# Altium footprint library alexsb.PCBLIB: 444 footprints (part 13 of 28)
Each footprint in its own frame and in the unit in brackets; x right, y up, seen from the top. Pads: shape width x height; smd on the part's side, far side on the other; paste and mask are expansions set on the pad; w line width, h text height; cw(c..) or ccw(c..) is an arc to the next point about the centre after c.
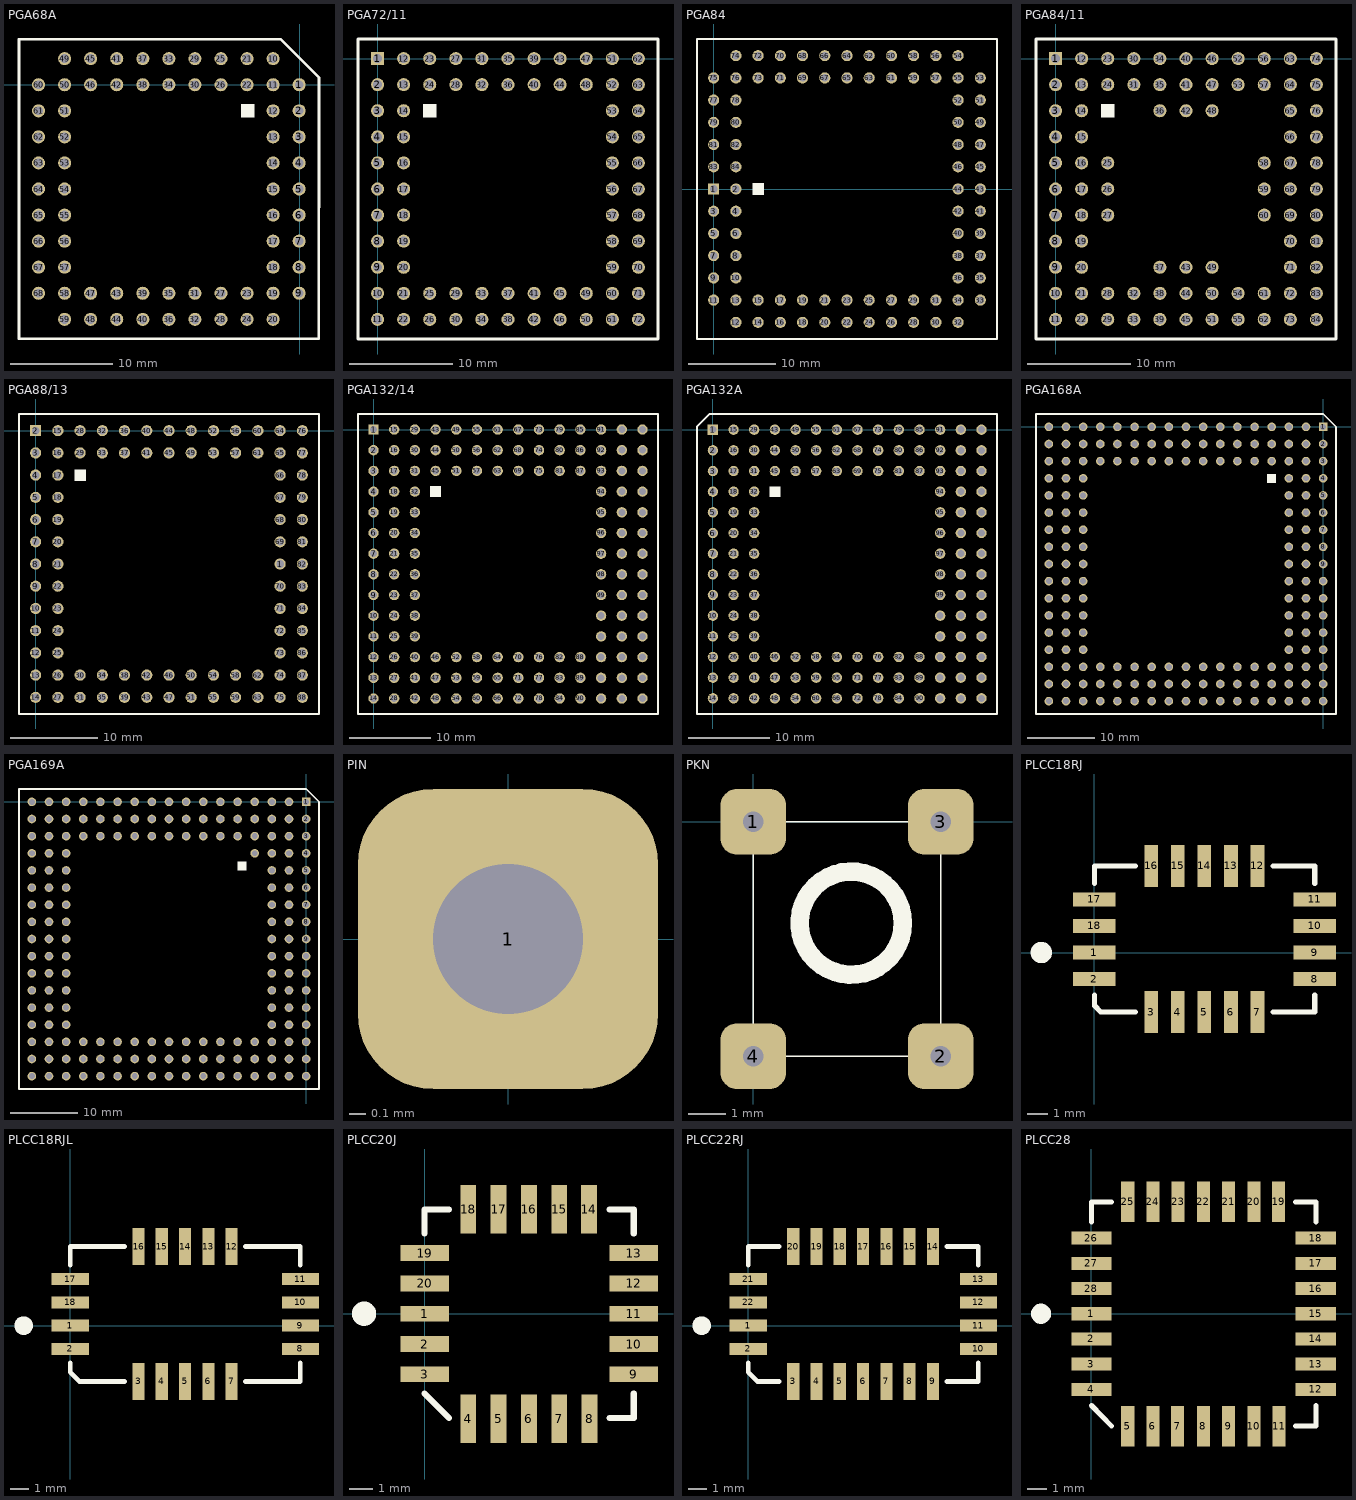
[diagram p12: the footprints below, top view; thin cyan lines are the x and y axes]

## PGA68A [mil]
pads (68):
  round 50 hole 34: 1(-3,0) 2(-3,-100) 3(-3,-200) 4(-3,-300) 5(-3,-400) 6(-3,-500) 7(-3,-600) 8(-3,-700) 9(-3,-800) 10(-103,100) 11(-103,0) 12(-103,-100) 13(-103,-200) 14(-103,-300) 15(-103,-400) 16(-103,-500) 17(-103,-600) 18(-103,-700) 19(-103,-800) 20(-103,-900) 21(-203,100) 22(-203,0) 23(-203,-800) 24(-203,-900) 25(-303,100) 26(-303,0) 27(-303,-800) 28(-303,-900) 29(-403,100) 30(-403,0) 31(-403,-800) 32(-403,-900) 33(-503,100) 34(-503,0) 35(-503,-800) 36(-503,-900) 37(-603,100) 38(-603,0) 39(-603,-800) 40(-603,-900) 41(-703,100) 42(-703,0) 43(-703,-800) 44(-703,-900) 45(-803,100) 46(-803,0) 47(-803,-800) 48(-803,-900) 49(-903,100) 50(-903,0) 51(-903,-100) 52(-903,-200) 53(-903,-300) 54(-903,-400) 55(-903,-500) 56(-903,-600) 57(-903,-700) 58(-903,-800) 59(-903,-900) 60(-1003,0) 61(-1003,-100) 62(-1003,-200) 63(-1003,-300) 64(-1003,-400) 65(-1003,-500) 66(-1003,-600) 67(-1003,-700) 68(-1003,-800)
Top Overlay:
  region: -175,-75 -225,-75 -225,-125 -175,-125
  lines w10: -1078,-975 -1078,175 -75,175 73,27 72,-975 -1078,-975

## PGA72/11 [mil]
pads (72):
  rect 50x50 hole 34: 1(0,0)
  round 50 hole 34: 2(0,-100) 3(0,-200) 4(0,-300) 5(0,-400) 6(0,-500) 7(0,-600) 8(0,-700) 9(0,-800) 10(0,-900) 11(0,-1000) 12(100,0) 13(100,-100) 14(100,-200) 15(100,-300) 16(100,-400) 17(100,-500) 18(100,-600) 19(100,-700) 20(100,-800) 21(100,-900) 22(100,-1000) 23(200,0) 24(200,-100) 25(200,-900) 26(200,-1000) 27(300,0) 28(300,-100) 29(300,-900) 30(300,-1000) 31(400,0) 32(400,-100) 33(400,-900) 34(400,-1000) 35(500,0) 36(500,-100) 37(500,-900) 38(500,-1000) 39(600,0) 40(600,-100) 41(600,-900) 42(600,-1000) 43(700,0) 44(700,-100) 45(700,-900) 46(700,-1000) 47(800,0) 48(800,-100) 49(800,-900) 50(800,-1000) 51(900,0) 52(900,-100) 53(900,-200) 54(900,-300) 55(900,-400) 56(900,-500) 57(900,-600) 58(900,-700) 59(900,-800) 60(900,-900) 61(900,-1000) 62(1000,0) 63(1000,-100) 64(1000,-200) 65(1000,-300) 66(1000,-400) 67(1000,-500) 68(1000,-600) 69(1000,-700) 70(1000,-800) 71(1000,-900) 72(1000,-1000)
Top Overlay:
  region: 175,-225 225,-225 225,-175 175,-175
  lines w10: -75,-1075 1075,-1075 1075,75 -75,75 -75,-1075

## PGA84 [mil]
pads (84):
  rect 50x50 hole 34: 1(0,0)
  round 50 hole 34: 2(100,0) 3(0,-100) 4(100,-100) 5(0,-200) 6(100,-200) 7(0,-300) 8(100,-300) 9(0,-400) 10(100,-400) 11(0,-500) 12(100,-600) 13(100,-500) 14(200,-600) 15(200,-500) 16(300,-600) 17(300,-500) 18(400,-600) 19(400,-500) 20(500,-600) 21(500,-500) 22(600,-600) 23(600,-500) 24(700,-600) 25(700,-500) 26(800,-600) 27(800,-500) 28(900,-600) 29(900,-500) 30(1000,-600) 31(1000,-500) 32(1100,-600) 33(1200,-500) 34(1100,-500) 35(1200,-400) 36(1100,-400) 37(1200,-300) 38(1100,-300) 39(1200,-200) 40(1100,-200) 41(1200,-100) 42(1100,-100) 43(1200,0) 44(1100,0) 45(1200,100) 46(1100,100) 47(1200,200) 48(1100,200) 49(1200,300) 50(1100,300) 51(1200,400) 52(1100,400) 53(1200,500) 54(1100,600) 55(1100,500) 56(1000,600) 57(1000,500) 58(900,600) 59(900,500) 60(800,600) 61(800,500) 62(700,600) 63(700,500) 64(600,600) 65(600,500) 66(500,600) 67(500,500) 68(400,600) 69(400,500) 70(300,600) 71(300,500) 72(200,600) 73(200,500) 74(100,600) 75(0,500) 76(100,500) 77(0,400) 78(100,400) 79(0,300) 80(100,300) 81(0,200) 82(100,200) 83(0,100) 84(100,100)
Top Overlay:
  region: 175,-25 225,-25 225,25 175,25
  lines w10: -75,-675 1275,-675 1275,675 -75,675 -75,-675

## PGA84/11 [mil]
pads (84):
  rect 50x50 hole 34: 1(0,0)
  round 50 hole 34: 2(0,-100) 3(0,-200) 4(0,-300) 5(0,-400) 6(0,-500) 7(0,-600) 8(0,-700) 9(0,-800) 10(0,-900) 11(0,-1000) 12(100,0) 13(100,-100) 14(100,-200) 15(100,-300) 16(100,-400) 17(100,-500) 18(100,-600) 19(100,-700) 20(100,-800) 21(100,-900) 22(100,-1000) 23(200,0) 24(200,-100) 25(200,-400) 26(200,-500) 27(200,-600) 28(200,-900) 29(200,-1000) 30(300,0) 31(300,-100) 32(300,-900) 33(300,-1000) 34(400,0) 35(400,-100) 36(400,-200) 37(400,-800) 38(400,-900) 39(400,-1000) 40(500,0) 41(500,-100) 42(500,-200) 43(500,-800) 44(500,-900) 45(500,-1000) 46(600,0) 47(600,-100) 48(600,-200) 49(600,-800) 50(600,-900) 51(600,-1000) 52(700,0) 53(700,-100) 54(700,-900) 55(700,-1000) 56(800,0) 57(800,-100) 58(800,-400) 59(800,-500) 60(800,-600) 61(800,-900) 62(800,-1000) 63(900,0) 64(900,-100) 65(900,-200) 66(900,-300) 67(900,-400) 68(900,-500) 69(900,-600) 70(900,-700) 71(900,-800) 72(900,-900) 73(900,-1000) 74(1000,0) 75(1000,-100) 76(1000,-200) 77(1000,-300) 78(1000,-400) 79(1000,-500) 80(1000,-600) 81(1000,-700) 82(1000,-800) 83(1000,-900) 84(1000,-1000)
Top Overlay:
  region: 175,-225 225,-225 225,-175 175,-175
  lines w10: -75,-1075 1075,-1075 1075,75 -75,75 -75,-1075

## PGA88/13 [mil]
pads (88):
  round 50 hole 34: 1(1100,-600) 3(0,-100) 4(0,-200) 5(0,-300) 6(0,-400) 7(0,-500) 8(0,-600) 9(0,-700) 10(0,-800) 11(0,-900) 12(0,-1000) 13(0,-1100) 14(0,-1200) 15(100,0) 16(100,-100) 17(100,-200) 18(100,-300) 19(100,-400) 20(100,-500) 21(100,-600) 22(100,-700) 23(100,-800) 24(100,-900) 25(100,-1000) 26(100,-1100) 27(100,-1200) 28(200,0) 29(200,-100) 30(200,-1100) 31(200,-1200) 32(300,0) 33(300,-100) 34(300,-1100) 35(300,-1200) 36(400,0) 37(400,-100) 38(400,-1100) 39(400,-1200) 40(500,0) 41(500,-100) 42(500,-1100) 43(500,-1200) 44(600,0) 45(600,-100) 46(600,-1100) 47(600,-1200) 48(700,0) 49(700,-100) 50(700,-1100) 51(700,-1200) 52(800,0) 53(800,-100) 54(800,-1100) 55(800,-1200) 56(900,0) 57(900,-100) 58(900,-1100) 59(900,-1200) 60(1000,0) 61(1000,-100) 62(1000,-1100) 63(1000,-1200) 64(1100,0) 65(1100,-100) 66(1100,-200) 67(1100,-300) 68(1100,-400) 69(1100,-500) 70(1100,-700) 71(1100,-800) 72(1100,-900) 73(1100,-1000) 74(1100,-1100) 75(1100,-1200) 76(1200,0) 77(1200,-100) 78(1200,-200) 79(1200,-300) 80(1200,-400) 81(1200,-500) 82(1200,-600) 83(1200,-700) 84(1200,-800) 85(1200,-900) 86(1200,-1000) 87(1200,-1100) 88(1200,-1200)
  rect 50x50 hole 34: 2(0,0)
Top Overlay:
  region: 175,-225 225,-225 225,-175 175,-175
  lines w10: -75,-1275 1275,-1275 1275,75 -75,75 -75,-1275

## PGA132/14 [mil]
pads (132):
  rect 50x50 hole 34: 1(0,0)
  round 50 hole 34: 2(0,-100) 3(0,-200) 4(0,-300) 5(0,-400) 6(0,-500) 7(0,-600) 8(0,-700) 9(0,-800) 10(0,-900) 11(0,-1000) 12(0,-1100) 13(0,-1200) 14(0,-1300) 15(100,0) 16(100,-100) 17(100,-200) 18(100,-300) 19(100,-400) 20(100,-500) 21(100,-600) 22(100,-700) 23(100,-800) 24(100,-900) 25(100,-1000) 26(100,-1100) 27(100,-1200) 28(100,-1300) 29(200,0) 30(200,-100) 31(200,-200) 32(200,-300) 33(200,-400) 34(200,-500) 35(200,-600) 36(200,-700) 37(200,-800) 38(200,-900) 39(200,-1000) 40(200,-1100) 41(200,-1200) 42(200,-1300) 43(300,0) 44(300,-100) 45(300,-200) 46(300,-1100) 47(300,-1200) 48(300,-1300) 49(400,0) 50(400,-100) 51(400,-200) 52(400,-1100) 53(400,-1200) 54(400,-1300) 55(500,0) 56(500,-100) 57(500,-200) 58(500,-1100) 59(500,-1200) 60(500,-1300) 61(600,0) 62(600,-100) 63(600,-200) 64(600,-1100) 65(600,-1200) 66(600,-1300) 67(700,0) 68(700,-100) 69(700,-200) 70(700,-1100) 71(700,-1200) 72(700,-1300) 73(800,0) 74(800,-100) 75(800,-200) 76(800,-1100) 77(800,-1200) 78(800,-1300) 79(900,0) 80(900,-100) 81(900,-200) 82(900,-1100) 83(900,-1200) 84(900,-1300) 85(1000,0) 86(1000,-100) 87(1000,-200) 88(1000,-1100) 89(1000,-1200) 90(1000,-1300) 91(1100,0) 92(1100,-100) 93(1100,-200) 94(1100,-300) 95(1100,-400) 96(1100,-500) 97(1100,-600) 98(1100,-700) 99(1100,-800) 100(1100,-900) 101(1100,-1000) 102(1100,-1100) 103(1100,-1200) 104(1100,-1300) 105(1200,0) 106(1200,-100) 107(1200,-200) 108(1200,-300) 109(1200,-400) 110(1200,-500) 111(1200,-600) 112(1200,-700) 113(1200,-800) 114(1200,-900) 115(1200,-1000) 116(1200,-1100) 117(1200,-1200) 118(1200,-1300) 119(1300,0) 120(1300,-100) 121(1300,-200) 122(1300,-300) 123(1300,-400) 124(1300,-500) 125(1300,-600) 126(1300,-700) 127(1300,-800) 128(1300,-900) 129(1300,-1000) 130(1300,-1100) 131(1300,-1200) 132(1300,-1300)
Top Overlay:
  region: 275,-325 325,-325 325,-275 275,-275
  lines w10: -75,-1375 -75,75 1375,75 1375,-1375 -75,-1375

## PGA132A [mil]
pads (132):
  rect 50x50 hole 34: 1(0,1)
  round 50 hole 34: 2(0,-99) 3(0,-199) 4(0,-299) 5(0,-399) 6(0,-499) 7(0,-599) 8(0,-699) 9(0,-799) 10(0,-899) 11(0,-999) 12(0,-1099) 13(0,-1199) 14(0,-1299) 15(100,1) 16(100,-99) 17(100,-199) 18(100,-299) 19(100,-399) 20(100,-499) 21(100,-599) 22(100,-699) 23(100,-799) 24(100,-899) 25(100,-999) 26(100,-1099) 27(100,-1199) 28(100,-1299) 29(200,1) 30(200,-99) 31(200,-199) 32(200,-299) 33(200,-399) 34(200,-499) 35(200,-599) 36(200,-699) 37(200,-799) 38(200,-899) 39(200,-999) 40(200,-1099) 41(200,-1199) 42(200,-1299) 43(300,1) 44(300,-99) 45(300,-199) 46(300,-1099) 47(300,-1199) 48(300,-1299) 49(400,1) 50(400,-99) 51(400,-199) 52(400,-1099) 53(400,-1199) 54(400,-1299) 55(500,1) 56(500,-99) 57(500,-199) 58(500,-1099) 59(500,-1199) 60(500,-1299) 61(600,1) 62(600,-99) 63(600,-199) 64(600,-1099) 65(600,-1199) 66(600,-1299) 67(700,1) 68(700,-99) 69(700,-199) 70(700,-1099) 71(700,-1199) 72(700,-1299) 73(800,1) 74(800,-99) 75(800,-199) 76(800,-1099) 77(800,-1199) 78(800,-1299) 79(900,1) 80(900,-99) 81(900,-199) 82(900,-1099) 83(900,-1199) 84(900,-1299) 85(1000,1) 86(1000,-99) 87(1000,-199) 88(1000,-1099) 89(1000,-1199) 90(1000,-1299) 91(1100,1) 92(1100,-99) 93(1100,-199) 94(1100,-299) 95(1100,-399) 96(1100,-499) 97(1100,-599) 98(1100,-699) 99(1100,-799) 100(1100,-899) 101(1100,-999) 102(1100,-1099) 103(1100,-1199) 104(1100,-1299) 105(1200,1) 106(1200,-99) 107(1200,-199) 108(1200,-299) 109(1200,-399) 110(1200,-499) 111(1200,-599) 112(1200,-699) 113(1200,-799) 114(1200,-899) 115(1200,-999) 116(1200,-1099) 117(1200,-1199) 118(1200,-1299) 119(1300,1) 120(1300,-99) 121(1300,-199) 122(1300,-299) 123(1300,-399) 124(1300,-499) 125(1300,-599) 126(1300,-699) 127(1300,-799) 128(1300,-899) 129(1300,-999) 130(1300,-1099) 131(1300,-1199) 132(1300,-1299)
Top Overlay:
  region: 325,-324 325,-274 275,-274 275,-324
  lines w10: -77,-1374 -76,17 -17,76 1375,76 1375,-1374 -75,-1374

## PGA168A [mil]
pads (168):
  rect 50x50 hole 34: 1(0,0)
  round 50 hole 34: 2(0,-100) 3(0,-200) 4(0,-300) 5(0,-400) 6(0,-500) 7(0,-600) 8(0,-700) 9(0,-800) 10(0,-900) 11(0,-1000) 12(0,-1100) 13(0,-1200) 14(0,-1300) 15(0,-1400) 16(0,-1500) 17(0,-1600) 18(-100,0) 19(-100,-100) 20(-100,-200) 21(-100,-300) 22(-100,-400) 23(-100,-500) 24(-100,-600) 25(-100,-700) 26(-100,-800) 27(-100,-900) 28(-100,-1000) 29(-100,-1100) 30(-100,-1200) 31(-100,-1300) 32(-100,-1400) 33(-100,-1500) 34(-100,-1600) 35(-200,0) 36(-200,-100) 37(-200,-200) 38(-200,-300) 39(-200,-400) 40(-200,-500) 41(-200,-600) 42(-200,-700) 43(-200,-800) 44(-200,-900) 45(-200,-1000) 46(-200,-1100) 47(-200,-1200) 48(-200,-1300) 49(-200,-1400) 50(-200,-1500) 51(-200,-1600) 52(-300,0) 53(-300,-100) 54(-300,-200) 55(-300,-1400) 56(-300,-1500) 57(-300,-1600) 58(-400,0) 59(-400,-100) 60(-400,-200) 61(-400,-1400) 62(-400,-1500) 63(-400,-1600) 64(-500,0) 65(-500,-100) 66(-500,-200) 67(-500,-1400) 68(-500,-1500) 69(-500,-1600) 70(-600,0) 71(-600,-100) 72(-600,-200) 73(-600,-1400) 74(-600,-1500) 75(-600,-1600) 76(-700,0) 77(-700,-100) 78(-700,-200) 79(-700,-1400) 80(-700,-1500) 81(-700,-1600) 82(-800,0) 83(-800,-100) 84(-800,-200) 85(-800,-1400) 86(-800,-1500) 87(-800,-1600) 88(-900,0) 89(-900,-100) 90(-900,-200) 91(-900,-1400) 92(-900,-1500) 93(-900,-1600) 94(-1000,0) 95(-1000,-100) 96(-1000,-200) 97(-1000,-1400) 98(-1000,-1500) 99(-1000,-1600) 100(-1100,0) 101(-1100,-100) 102(-1100,-200) 103(-1100,-1400) 104(-1100,-1500) 105(-1100,-1600) 106(-1200,0) 107(-1200,-100) 108(-1200,-200) 109(-1200,-1400) 110(-1200,-1500) 111(-1200,-1600) 112(-1300,0) 113(-1300,-100) 114(-1300,-200) 115(-1300,-1400) 116(-1300,-1500) 117(-1300,-1600) 118(-1400,0) 119(-1400,-100) 120(-1400,-200) 121(-1400,-300) 122(-1400,-400) 123(-1400,-500) 124(-1400,-600) 125(-1400,-700) 126(-1400,-800) 127(-1400,-900) 128(-1400,-1000) 129(-1400,-1100) 130(-1400,-1200) 131(-1400,-1300) 132(-1400,-1400) 133(-1400,-1500) 134(-1400,-1600) 135(-1500,0) 136(-1500,-100) 137(-1500,-200) 138(-1500,-300) 139(-1500,-400) 140(-1500,-500) 141(-1500,-600) 142(-1500,-700) 143(-1500,-800) 144(-1500,-900) 145(-1500,-1000) 146(-1500,-1100) 147(-1500,-1200) 148(-1500,-1300) 149(-1500,-1400) 150(-1500,-1500) 151(-1500,-1600) 152(-1600,0) 153(-1600,-100) 154(-1600,-200) 155(-1600,-300) 156(-1600,-400) 157(-1600,-500) 158(-1600,-600) 159(-1600,-700) 160(-1600,-800) 161(-1600,-900) 162(-1600,-1000) 163(-1600,-1100) 164(-1600,-1200) 165(-1600,-1300) 166(-1600,-1400) 167(-1600,-1500) 168(-1600,-1600)
Top Overlay:
  region: -275,-275 -325,-275 -325,-325 -275,-325
  lines w10: -1675,-1675 -1675,75 0,75 75,0 75,-1675 -1675,-1675

## PGA169A [mil]
pads (169):
  rect 50x50 hole 34: 1(0,0)
  round 50 hole 34: 2(0,-100) 3(0,-200) 4(0,-300) 5(0,-400) 6(0,-500) 7(0,-600) 8(0,-700) 9(0,-800) 10(0,-900) 11(0,-1000) 12(0,-1100) 13(0,-1200) 14(0,-1300) 15(0,-1400) 16(0,-1500) 17(0,-1600) 18(-100,0) 19(-100,-100) 20(-100,-200) 21(-100,-300) 22(-100,-400) 23(-100,-500) 24(-100,-600) 25(-100,-700) 26(-100,-800) 27(-100,-900) 28(-100,-1000) 29(-100,-1100) 30(-100,-1200) 31(-100,-1300) 32(-100,-1400) 33(-100,-1500) 34(-100,-1600) 35(-200,0) 36(-200,-100) 37(-200,-200) 38(-200,-300) 39(-200,-400) 40(-200,-500) 41(-200,-600) 42(-200,-700) 43(-200,-800) 44(-200,-900) 45(-200,-1000) 46(-200,-1100) 47(-200,-1200) 48(-200,-1300) 49(-200,-1400) 50(-200,-1500) 51(-200,-1600) 52(-300,0) 53(-300,-100) 54(-300,-200) 55(-300,-300) 56(-300,-1400) 57(-300,-1500) 58(-300,-1600) 59(-400,0) 60(-400,-100) 61(-400,-200) 62(-400,-1400) 63(-400,-1500) 64(-400,-1600) 65(-500,0) 66(-500,-100) 67(-500,-200) 68(-500,-1400) 69(-500,-1500) 70(-500,-1600) 71(-600,0) 72(-600,-100) 73(-600,-200) 74(-600,-1400) 75(-600,-1500) 76(-600,-1600) 77(-700,0) 78(-700,-100) 79(-700,-200) 80(-700,-1400) 81(-700,-1500) 82(-700,-1600) 83(-800,0) 84(-800,-100) 85(-800,-200) 86(-800,-1400) 87(-800,-1500) 88(-800,-1600) 89(-900,0) 90(-900,-100) 91(-900,-200) 92(-900,-1400) 93(-900,-1500) 94(-900,-1600) 95(-1000,0) 96(-1000,-100) 97(-1000,-200) 98(-1000,-1400) 99(-1000,-1500) 100(-1000,-1600) 101(-1100,0) 102(-1100,-100) 103(-1100,-200) 104(-1100,-1400) 105(-1100,-1500) 106(-1100,-1600) 107(-1200,0) 108(-1200,-100) 109(-1200,-200) 110(-1200,-1400) 111(-1200,-1500) 112(-1200,-1600) 113(-1300,0) 114(-1300,-100) 115(-1300,-200) 116(-1300,-1400) 117(-1300,-1500) 118(-1300,-1600) 119(-1400,0) 120(-1400,-100) 121(-1400,-200) 122(-1400,-300) 123(-1400,-400) 124(-1400,-500) 125(-1400,-600) 126(-1400,-700) 127(-1400,-800) 128(-1400,-900) 129(-1400,-1000) 130(-1400,-1100) 131(-1400,-1200) 132(-1400,-1300) 133(-1400,-1400) 134(-1400,-1500) 135(-1400,-1600) 136(-1500,0) 137(-1500,-100) 138(-1500,-200) 139(-1500,-300) 140(-1500,-400) 141(-1500,-500) 142(-1500,-600) 143(-1500,-700) 144(-1500,-800) 145(-1500,-900) 146(-1500,-1000) 147(-1500,-1100) 148(-1500,-1200) 149(-1500,-1300) 150(-1500,-1400) 151(-1500,-1500) 152(-1500,-1600) 153(-1600,0) 154(-1600,-100) 155(-1600,-200) 156(-1600,-300) 157(-1600,-400) 158(-1600,-500) 159(-1600,-600) 160(-1600,-700) 161(-1600,-800) 162(-1600,-900) 163(-1600,-1000) 164(-1600,-1100) 165(-1600,-1200) 166(-1600,-1300) 167(-1600,-1400) 168(-1600,-1500) 169(-1600,-1600)
Top Overlay:
  region: -350,-350 -400,-350 -400,-400 -350,-400
  lines w10: -1675,-1675 75,-1675 75,0 0,75 -1675,75 -1675,-1675

## PIN [mm]
pads (1):
  rrect50% 1.8x1.8 hole 0.9: 1(0,0)

## PKN [mil]
pads (4):
  rrect50% 70x70 hole 22: 1(0,0) 2(200,-250) 3(200,0) 4(0,-250)
Top Overlay:
  circle w19.68: c104.53,-108.07 r55.02
  lines w1.97: 0,-250 200,-250 200,0 0,0 0,-250

## PLCC18RJ [mil]
pads (18):
  rect 80x26 smd: 1(0,0) 2(0,-50) 8(415,-50) 9(415,0) 10(415,50) 11(415,100) 17(0,100) 18(0,50)
  rect 26x80 smd: 3(107,-112) 4(157,-112) 5(207,-112) 6(257,-112) 7(307,-112) 12(307,163) 13(257,163) 14(207,163) 15(157,163) 16(107,163)
Top Overlay:
  circle w20: c-100,0 r10
  lines w10: 0,-80 0,-100 12,-112 77,-112 ; 0,130 0,163 77,163 ; 337,-112 415,-112 415,-80 ; 337,163 415,163 415,130

## PLCC18RJL [mil]
pads (18):
  rect 80x26 smd: 1(0,0) 2(0,-50) 8(495,-50) 9(495,0) 10(495,50) 11(495,100) 17(0,100) 18(0,50)
  rect 26x80 smd: 3(147,-120) 4(197,-120) 5(247,-120) 6(297,-120) 7(347,-120) 12(347,170) 13(297,170) 14(247,170) 15(197,170) 16(147,170)
Top Overlay:
  circle w20: c-100,0 r10
  lines w10: 0,-80 0,-100 20,-120 117,-120 ; 0,130 0,170 117,170 ; 377,-120 495,-120 495,-80 ; 377,170 495,170 495,130

## PLCC20J [mil]
pads (20):
  rect 80x26 smd: 1(0,0) 2(0,-50) 3(0,-100) 9(345,-100) 10(345,-50) 11(345,0) 12(345,50) 13(345,100) 19(0,100) 20(0,50)
  rect 26x80 smd: 4(72,-173) 5(122,-173) 6(172,-173) 7(222,-173) 8(272,-173) 14(271,172) 15(222,172) 16(172,172) 17(122,172) 18(72,172)
Top Overlay:
  circle w20: c-100,0 r10
  lines w10: 0,-132 40,-172 ; 0,132 0,172 40,172 ; 305,-172 345,-172 345,-132 ; 305,172 345,172 345,132

## PLCC22RJ [mil]
pads (22):
  rect 80x26 smd: 1(0,0) 2(0,-50) 10(495,-50) 11(495,0) 12(495,50) 13(495,100) 21(0,100) 22(0,50)
  rect 26x80 smd: 3(97,-120) 4(147,-120) 5(197,-120) 6(247,-120) 7(297,-120) 8(347,-120) 9(397,-120) 14(397,170) 15(347,170) 16(297,170) 17(247,170) 18(197,170) 19(147,170) 20(97,170)
Top Overlay:
  circle w20: c-100,0 r10
  lines w10: 0,-80 0,-100 20,-120 67,-120 ; 0,130 0,170 67,170 ; 427,-120 495,-120 495,-80 ; 427,170 495,170 495,130

## PLCC28 [mil]
pads (28):
  rect 80x26 smd: 1(0,0) 2(0,-50) 3(0,-100) 4(0,-150) 12(445,-150) 13(445,-100) 14(445,-50) 15(445,0) 16(445,50) 17(445,100) 18(445,150) 26(0,150) 27(0,100) 28(0,50)
  rect 26x80 smd: 5(72,-223) 6(122,-223) 7(171,-223) 8(222,-223) 9(272,-223) 10(322,-223) 11(372,-223) 19(371,222) 20(322,222) 21(272,222) 22(222,222) 23(172,222) 24(122,222) 25(72,222)
Top Overlay:
  circle w20: c-100,0 r10
  lines w10: 0,-182 40,-223 ; 0,182 0,222 40,222 ; 405,-223 445,-223 445,-182 ; 405,222 445,222 445,182